# EAGLE library part TS472_MODULE (library ts472_module)
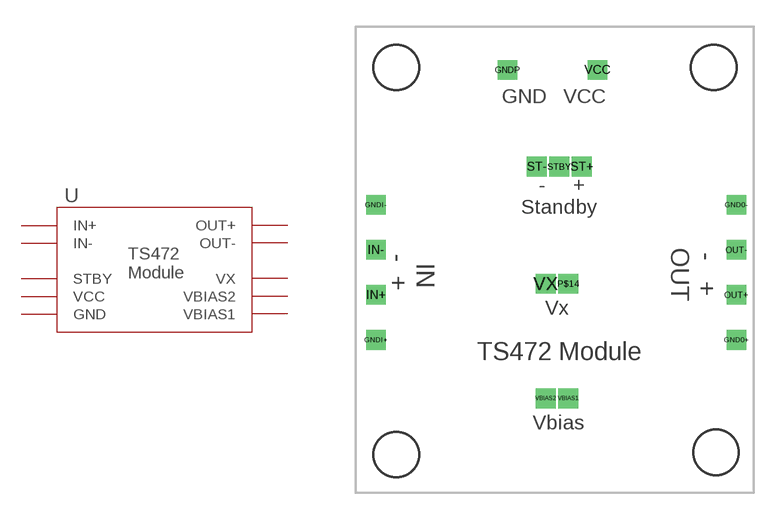
[diagram p0: symbol with the pads of TS472_MODULE_F; footprint TS472_MODULE_F]

Designator prefix -

## TS472_MODULE  [TS472_MODULE_F]
GND0+  GND  pwr
GND0-  GND  pwr
GNDI+  GND  pwr
GNDI-  GND  pwr
GNDP  GND  pwr
IN+  IN+  in
IN-  IN-  in
OUT+  OUT+  out
OUT-  OUT-  out
P$14  GND  pwr
ST+  VCC  pwr
ST-  GND  pwr
STBY  STBY  in
VBIAS1  VBIAS1  out
VBIAS2  VBIAS2  out
VCC  VCC  pwr
VX  VX  out

## Footprint TS472_MODULE_F (pad centres in mm)
drill 0.6 square: GND0+ 21.463,8.636; GND0- 21.463,16.256; GNDI+ 1.143,8.636; GNDI- 1.143,16.256; GNDP 8.56,23.876; IN+ 1.143,11.176; IN- 1.143,13.716; OUT+ 21.463,11.176; OUT- 21.463,13.716; P$14 11.989,11.811; ST+ 12.751,18.415; ST- 10.211,18.415; STBY 11.481,18.415; VBIAS1 11.989,5.334; VBIAS2 10.719,5.334; VCC 13.64,23.876; VX 10.719,11.811